# EAGLE library part 687106144921 (library Wuerth_Elektronik_eiCan_03_ZIF_Connectors_Flat_Flexible_Cable)
WR-FPC 0.5mm SMT ZIF Horizontal Top Contact Low Profile 1.2mm Height, 6 Pins
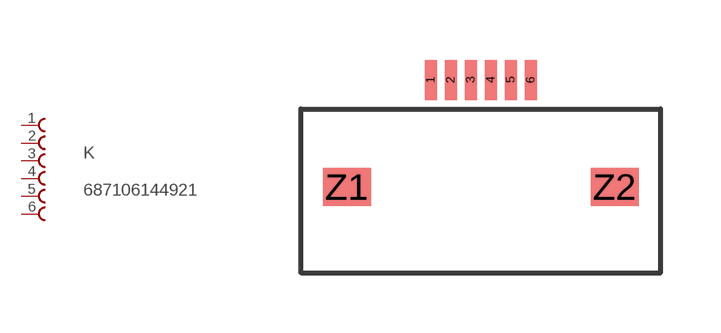
[diagram p90: symbol with the pads of 687106144921; footprint 687106144921]

Designator prefix K

## 687106144921  [687106144921]
1  1  pas
2  2  pas
3  3  pas
4  4  pas
5  5  pas
6  6  pas

## Footprint 687106144921 (pad centres in mm)
WR-FPC 0.5mm SMT ZIF Horizontal Top Contact Low Profile 1.2mm Height, 6 Pins
smd 0.3 x 1: 1 -1.25,4.825; 2 -0.75,4.825; 3 -0.25,4.825; 4 0.25,4.825; 5 0.75,4.825; 6 1.25,4.825
smd 1.2 x 0.95: Z1 -3.35,2.15; Z2 3.35,2.15